# Altium footprint library CLAP.PcbLib: 265 footprints (part 2 of 17)
Each footprint in its own frame and in the unit in brackets; x right, y up, seen from the top. Pads: shape width x height; smd on the part's side, far side on the other; paste and mask are expansions set on the pad; w line width, h text height; cw(c..) or ccw(c..) is an arc to the next point about the centre after c.
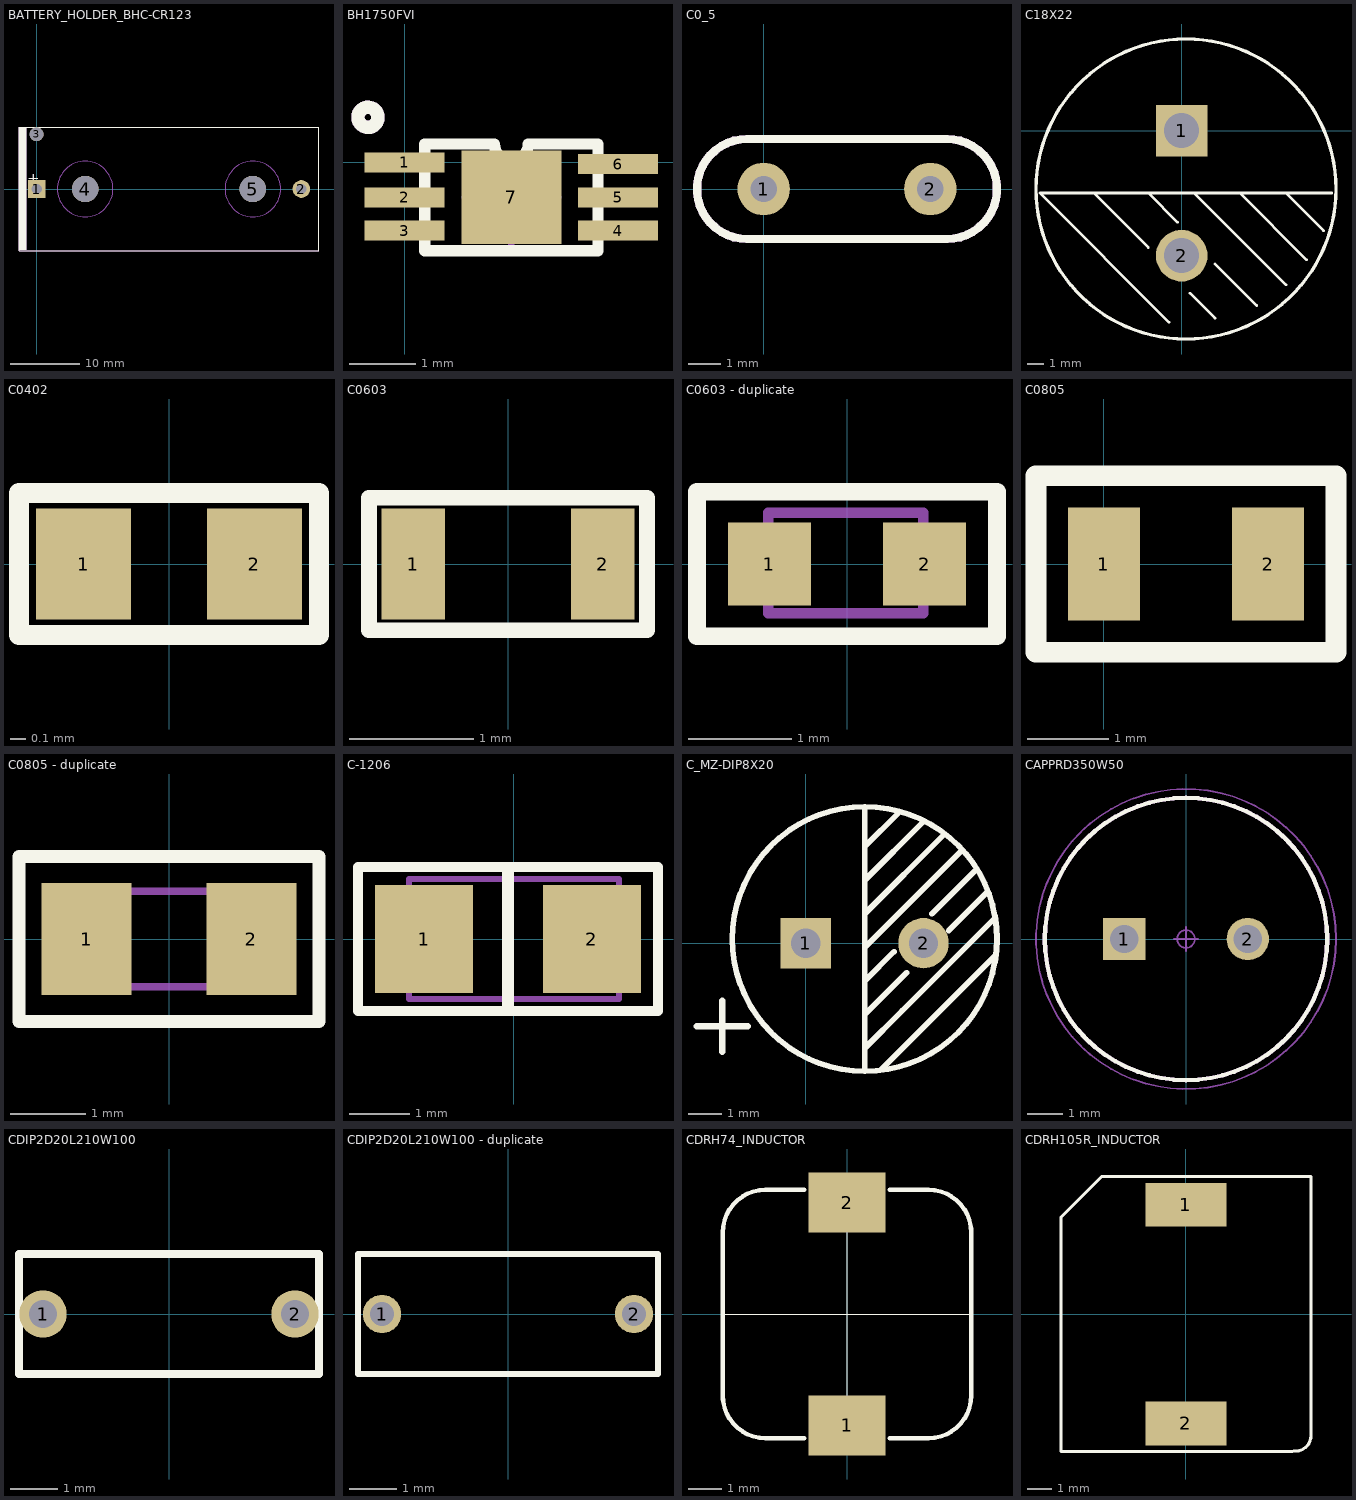
[diagram p1: the footprints below, top view; thin cyan lines are the x and y axes]

## BATTERY_HOLDER_BHC-CR123 [mm]
height 18.5
pads (5):
  rect 2.54x2.54 hole 1.5: 1(0,0)
  round 2.54 hole 1.5: 2(38.1,0)
  round 2 hole 2: 3(0,7.874)
  round 3.8 hole 3.8 unplated: 4(6.985,0) 5(31.115,0)
Top Overlay:
  region: -2.54,8.763 -1.524,8.763 -1.524,-8.763 -2.54,-8.763
  lines w0.17: -2.54,-8.89 -2.54,8.89 40.64,8.89 40.64,-8.89 -2.54,-8.89
  text "+" at -1.374,0.848 h1.59
Mechanical 1:
  circle w0.1: c6.985,0 r4
  circle w0.1: c31.115,0 r4
  region: -2.54,-8.763 -1.524,-8.763 -1.524,8.763 -2.54,8.763
  lines w0.17: -2.54,-8.89 -2.54,8.89 40.64,8.89 40.64,-8.89 -2.54,-8.89
  text "+" at -1.374,0.848 h1.59
Mechanical 2:
  circle w0.1: c6.985,0 r4
  circle w0.1: c31.115,0 r4
3D body "keystone-PN1051.STEP": height 15.44, standoff -3.36, extent -2.535,-9.171 40.391,9.117

## BH1750FVI [mm]
pads (7):
  rect 1.2x0.3 smd: 1(0,0) 2(0,-0.525) 3(0,-1.025) 4(3.2,-1.025) 5(3.2,-0.525) 6(3.2,-0.025)
  rect 1.5x1.4 smd: 7(1.6,-0.525)
Top Overlay:
  circle w0.2: c-0.55,0.675 r0.15
  lines w0.17: 0.3,-1.325 0.3,0.275 1.346,0.275 ccw(c1.6,0.275) 1.854,0.275 2.9,0.275 2.9,-1.325 0.3,-1.325
Mechanical 1:
  circle w0.1: c1.6,-0.525 r0.4
  circle w0.2: c-0.55,0.675 r0.15
  lines w0.1: 0.9,-0.525 2.3,-0.525 ; 1.6,-1.225 1.6,0.075 ; 0.3,-1.325 0.3,0.275 1.346,0.275 ccw(c1.6,0.275) 1.854,0.275 2.9,0.275 2.9,-1.325 0.3,-1.325

## C0_5 [mm]
pads (2):
  round 1.6 hole 0.8: 1(0,0) 2(5.08,0)
Top Overlay:
  lines w0.254: -0.508,-1.524 cw(c-0.508,0) -0.508,1.524 5.588,1.524 cw(c5.588,0) 5.588,-1.524 -0.508,-1.524
Mechanical 1:
  lines w0.254: -0.508,-1.524 cw(c-0.508,0) -0.508,1.524 5.588,1.524 cw(c5.588,0) 5.588,-1.524 -0.508,-1.524
3D body "C_Rect_L7.2mm_W3.0mm_P5.00mm_FKS2_FKP2_MKS2_MKP2.step": height 9, standoff -1.9, extent -1.1,-1.5 6.1,1.5

## C18X22 [mm]
pads (2):
  rect 3.1x3.1 hole 2.1: 1(0,0)
  round 3.1 hole 2.1: 2(0,-7.5)
Top Overlay:
  circle w0.2: c0.26,-3.5 r9
  lines w0.17: -5.25,-3.75 -2,-7 ; -2,-3.75 -0.25,-5.5 ; -0.75,-11.5 -8.5,-3.75 9,-3.75 ; 0.5,-9.75 2,-11.25 ; 0.75,-3.75 6.25,-9.25 ; 2,-8 4.5,-10.5 ; 3.5,-3.75 7.5,-7.75 ; 6.25,-3.75 8.5,-6
3D body "CAPPRD750.STEP": height 22.01, standoff -2, extent -9,-12.51 9,5.5

## C0402 [mil]
pads (2):
  rect 24x28 smd: 1(-21.65,0) 2(21.65,0)
Top Overlay:
  lines w5: -38,-18 38,-18 38,18 -38,18 -38,-18
3D body "CAPC1005X50N.stp": height 19.68, standoff 0, extent -19.68,-10.82 19.69,10.83

## C0603 [mil]
pads (2):
  rect 20x35 smd: 1(-30,0) 2(30,0)
Top Overlay:
  lines w5: -44,-21 44,-21 44,21 -44,21 -44,-21
3D body "C_0603_1608Metric.step": height 31.5, standoff 0, extent -31.5,-15.75 31.49,15.75

## C0603 - duplicate [mm]
pads (2):
  rect 0.8x0.8 smd: 1(-0.75,0) 2(0.75,0)
Top Overlay:
  lines w0.17: -1.45,-0.7 -1.45,0.7 1.45,0.7 1.45,-0.7 -1.45,-0.7
Mechanical 1:
  lines w0.1: -0.762,-0.475 0.738,-0.475 ; -0.762,-0.455 -0.762,0.495 0.738,0.495 0.738,-0.455
3D body "C_0603_1608Metric.step": height 0.8, standoff 0, extent -0.8,-0.4 0.8,0.4

## C0805 [mil]
pads (2):
  rect 35x55 smd: 1(0,0) 2(80,0)
Top Overlay:
  lines w10: -33,-43 113,-43 113,43 -33,43 -33,-43
3D body "C_0805_2012Metric.step": height 49.21, standoff 0, extent 0,-24.61 78.74,24.6

## C0805 - duplicate [mm]
pads (2):
  rect 1.2x1.5 smd: 1(-1.1,0) 2(1.1,0)
Top Overlay:
  lines w0.17: -2,-1.1 -2,1.1 2,1.1 2,-1.1 -2,-1.1
Mechanical 1:
  lines w0.1: -1.019,-0.635 -1.019,0.635 1.013,0.635 1.013,-0.635 -1.019,-0.635
3D body "C_0805_2012Metric.step": height 1.25, standoff 0, extent -1,-0.625 1,0.625

## C-1206 [mm]
pads (2):
  rect 1.626x1.8 smd: 1(-1.5,0) 2(1.3,0)
Top Overlay:
  lines w0.17: -2.6,-1.2 -2.6,1.2 2.4,1.2 2.4,-1.2 -2.6,-1.2
  lines w0.2: -0.098,-1.16 -0.098,1.09
Mechanical 1:
  lines w0.1: -1.748,-1 -1.748,1 -1.248,1 1.752,1 1.752,-1 -1.748,-1
3D body "C_1206_3216Metric.step": height 1.6, standoff 0, extent -1.6,-0.8 1.6,0.8

## C_MZ-DIP8X20 [mil]
pads (2):
  rect 60x60 hole 35: 1(0,0)
  round 60 hole 35: 2(140,0)
Top Overlay:
  circle w6.69: c70,5 r157.48
  lines w6.69: 70,-150 70,160 ; 70,-125 115,-80 225,30 ; 70,-85 120,-35 ; 70,-45 105,-10 ; 70,0 70,-5 185,110 ; 70,35 165,130 ; 70,75 140,145 ; 70,115 110,155 ; 90,-150 225,-15 ; 150,35 200,85 ; 170,15 215,60
  lines w8: -129.65,-98.9 -69.65,-98.9 ; -99.65,-128.9 -99.65,-68.9
3D body "CAPPRD350W50D800H2100.STEP": height 827.17, standoff -78.74, extent -88.58,-157.48 226.77,157.48

## CAPPRD350W50 [mm] "Capacitor, Polarized, Radial (Electrolytic); 3.50 mm C X 8.00 mm Dia X 11.50 mm H body"
height 11.5
pads (2):
  rect 1.2x1.2 hole 0.8 paste-1.2: 1(-1.75,0)
  round 1.2 hole 0.8 paste-1.2: 2(1.75,0)
Top Overlay:
  circle w0.12: c0,0 r4
Mechanical 11:
  circle w0.12: c0,0 r4
Mechanical 12:
  circle w0.025: c0,0 r4
  circle w0.025: c1.75,0 r0.3
  circle w0.025: c-1.75,0 r0.3
Mechanical 15:
  circle w0.05: c0,0 r0.25
  circle w0.05: c0,0 r4.25
  lines w0.05: -0.35,0 0.35,0 ; 0,-0.35 0,0.35
Mechanical 16:
  text ".Designator" at 0,0 h1.2
3D body "CAPPRD350W50.STEP": height 11.51, standoff -2, extent -4,-4 4.01,4

## CDIP2D20L210W100 [mm]
pads (2):
  round 1 hole 0.6: 1(-2.667,0) 2(2.667,0)
Top Overlay:
  lines w0.17: -3.175,-1.27 3.175,-1.27 3.175,1.27 -3.175,1.27 -3.175,-1.27
Mechanical 1:
  lines w0.1: -3.175,-1.27 3.175,-1.27 3.175,1.27 -3.175,1.27 -3.175,-1.27
3D body "C_Rect_L7.0mm_W2.0mm_P5.00mm.step": height 10, standoff -1.9, extent -3.5,-1 3.5,1

## CDIP2D20L210W100 - duplicate [mil]
pads (2):
  round 32 hole 20: 1(-105,0) 2(105,0)
Top Overlay:
  lines w5: -125,-50 125,-50 125,50 -125,50 -125,-50
3D body "C_Rect_L7.2mm_W2.5mm_P5.00mm_FKS2_FKP2_MKS2_MKP2.step": height 354.33, standoff -74.8, extent -143.3,-49.21 140.16,49.22

## CDRH74_INDUCTOR [mil]
pads (2):
  rect 90x70 smd: 1(0,-130) 2(0,130)
Top Overlay:
  lines w1: -145,0 145,0 ; 0,-160 0,160
  lines w5: -145,-100 -145,95 cw(c-95,95) -95,145 -50,145 ; -145,-95 ccw(c-95,-95) -95,-145 -50,-145 ; 50,-145 95,-145 ccw(c95,-95) 145,-95 145,100 ; 50,145 95,145 cw(c95,95) 145,95
3D body "INDM730X.STEP": height 177.17, standoff 0, extent -142.72,-143.69 142.71,143.7

## CDRH105R_INDUCTOR [mil]
pads (2):
  rect 130x70 smd: 1(0,175) 2(0,-175)
Top Overlay:
  lines w5: 170,-220 -200,-220 -200,155 -135,220 200,220 200,-190 ; 172.47,-219.37 ccw(c175,-194.5) 199.76,-191.02